# Altium footprint library Real-Time Clocks (RTCs).PcbLib: 185 footprints (part 12 of 12)
Each footprint in its own frame and in the unit in brackets; x right, y up, seen from the top. Pads: shape width x height; smd on the part's side, far side on the other; paste and mask are expansions set on the pad; w line width, h text height; cw(c..) or ccw(c..) is an arc to the next point about the centre after c.
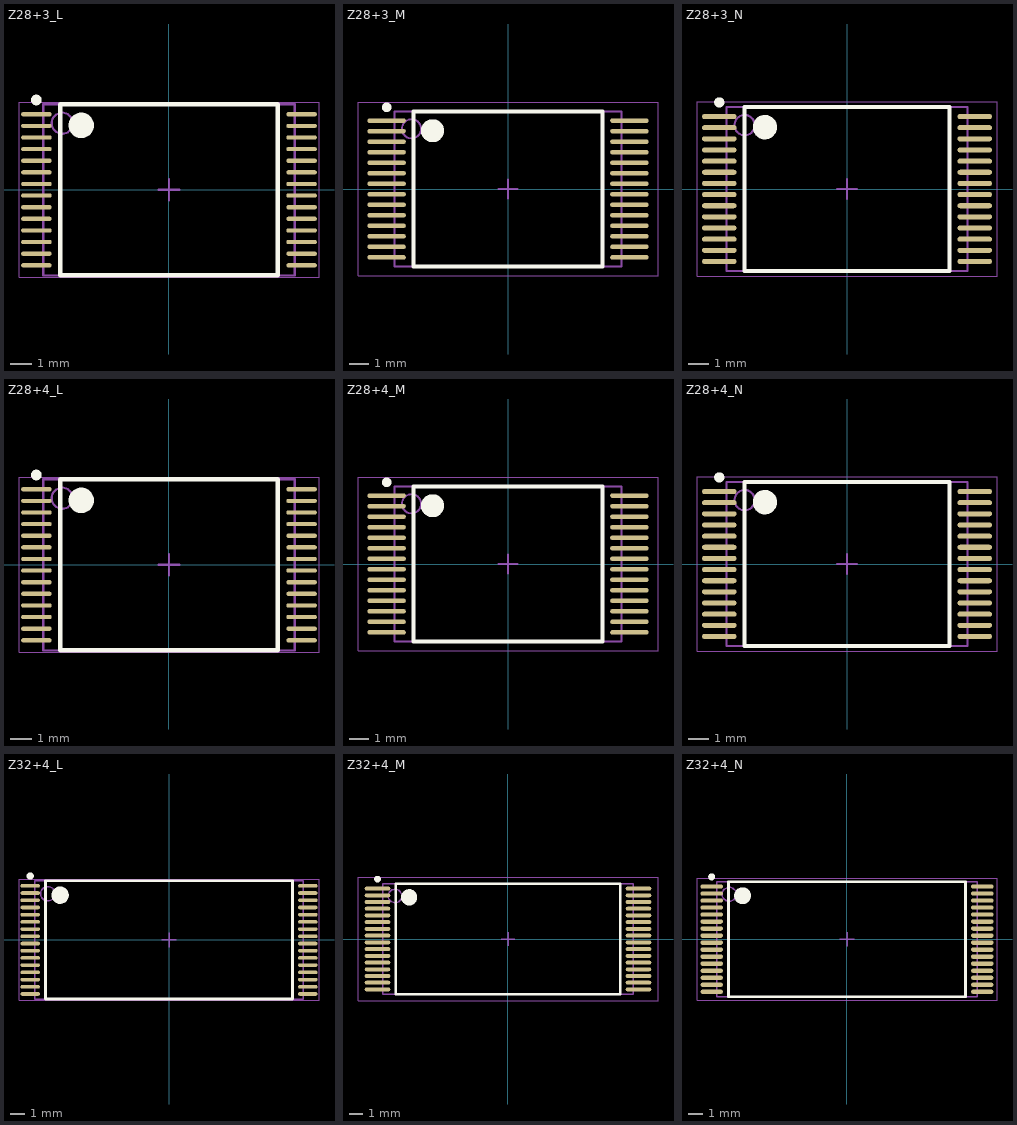
[diagram p11: the footprints below, top view; thin cyan lines are the x and y axes]

## Z28+3_L [mm] "TSSOP, 28-Leads, Body 8x11.8mm, Pitch 0.55mm, IPC High Density"
height 1.2
pads (28):
  oval 1.45x0.2 smd: 1(-6.275,3.575) 2(-6.275,3.025) 3(-6.275,2.475) 4(-6.275,1.925) 5(-6.275,1.375) 6(-6.275,0.825) 7(-6.275,0.275) 8(-6.275,-0.275) 9(-6.275,-0.825) 10(-6.275,-1.375) 11(-6.275,-1.925) 12(-6.275,-2.475) 13(-6.275,-3.025) 14(-6.275,-3.575) 15(6.275,-3.575) 16(6.275,-3.025) 17(6.275,-2.475) 18(6.275,-1.925) 19(6.275,-1.375) 20(6.275,-0.825) 21(6.275,-0.275) 22(6.275,0.275) 23(6.275,0.825) 24(6.275,1.375) 25(6.275,1.925) 26(6.275,2.475) 27(6.275,3.025) 28(6.275,3.575)
Top Overlay:
  circle w0.25: c-6.275,4.25 r0.125
  circle w0.6: c-4.15,3.05 r0.3
  lines w0.2: -5.15,-4.05 -5.15,4.05 5.15,4.05 5.15,-4.05 -5.15,-4.05
Mechanical 13:
  circle w0.1: c-5.05,3.15 r0.5
  lines w0.1: -5.95,-4.05 -5.95,4.05 5.95,4.05 5.95,-4.05 -5.95,-4.05
Mechanical 15:
  lines w0.05: -7.1,-4.15 -7.1,4.15 7.1,4.15 7.1,-4.15 -7.1,-4.15
  lines w0.1: -0.5,0 0.5,0 ; 0,-0.5 0,0.5
3D body: height 1.2, standoff 0.05, extent -5.95,-4.05 5.95,4.05

## Z28+3_M [mm] "TSSOP, 28-Leads, Body 8x11.8mm, Pitch 0.55mm, IPC Low Density"
height 1.2
pads (28):
  oval 2x0.25 smd: 1(-6.35,3.575) 2(-6.35,3.025) 3(-6.35,2.475) 4(-6.35,1.925) 5(-6.35,1.375) 6(-6.35,0.825) 7(-6.35,0.275) 8(-6.35,-0.275) 9(-6.35,-0.825) 10(-6.35,-1.375) 11(-6.35,-1.925) 12(-6.35,-2.475) 13(-6.35,-3.025) 14(-6.35,-3.575) 15(6.35,-3.575) 16(6.35,-3.025) 17(6.35,-2.475) 18(6.35,-1.925) 19(6.35,-1.375) 20(6.35,-0.825) 21(6.35,-0.275) 22(6.35,0.275) 23(6.35,0.825) 24(6.35,1.375) 25(6.35,1.925) 26(6.35,2.475) 27(6.35,3.025) 28(6.35,3.575)
Top Overlay:
  circle w0.25: c-6.35,4.275 r0.125
  circle w0.6: c-3.95,3.05 r0.3
  lines w0.2: -4.95,-4.05 -4.95,4.05 4.95,4.05 4.95,-4.05 -4.95,-4.05
Mechanical 13:
  circle w0.1: c-5.05,3.15 r0.5
  lines w0.1: -5.95,-4.05 -5.95,4.05 5.95,4.05 5.95,-4.05 -5.95,-4.05
Mechanical 15:
  lines w0.05: -7.85,-4.55 -7.85,4.55 7.85,4.55 7.85,-4.55 -7.85,-4.55
  lines w0.1: -0.5,0 0.5,0 ; 0,-0.5 0,0.5
3D body: height 1.2, standoff 0.05, extent -5.95,-4.05 5.95,4.05

## Z28+3_N [mm] "TSSOP, 28-Leads, Body 8x11.8mm, Pitch 0.55mm, IPC Medium Density"
height 1.2
pads (28):
  oval 1.7x0.25 smd: 1(-6.3,3.575) 2(-6.3,3.025) 3(-6.3,2.475) 4(-6.3,1.925) 5(-6.3,1.375) 6(-6.3,0.825) 7(-6.3,0.275) 8(-6.3,-0.275) 9(-6.3,-0.825) 10(-6.3,-1.375) 11(-6.3,-1.925) 12(-6.3,-2.475) 13(-6.3,-3.025) 14(-6.3,-3.575) 15(6.3,-3.575) 16(6.3,-3.025) 17(6.3,-2.475) 18(6.3,-1.925) 19(6.3,-1.375) 20(6.3,-0.825) 21(6.3,-0.275) 22(6.3,0.275) 23(6.3,0.825) 24(6.3,1.375) 25(6.3,1.925) 26(6.3,2.475) 27(6.3,3.025) 28(6.3,3.575)
Top Overlay:
  circle w0.25: c-6.3,4.275 r0.125
  circle w0.6: c-4.05,3.05 r0.3
  lines w0.2: -5.05,-4.05 -5.05,4.05 5.05,4.05 5.05,-4.05 -5.05,-4.05
Mechanical 13:
  circle w0.1: c-5.05,3.15 r0.5
  lines w0.1: -5.95,-4.05 -5.95,4.05 5.95,4.05 5.95,-4.05 -5.95,-4.05
Mechanical 15:
  lines w0.05: -7.4,-4.3 -7.4,4.3 7.4,4.3 7.4,-4.3 -7.4,-4.3
  lines w0.1: -0.5,0 0.5,0 ; 0,-0.5 0,0.5
3D body: height 1.2, standoff 0.05, extent -5.95,-4.05 5.95,4.05

## Z28+4_L [mm] "TSSOP, 28-Leads, Body 8x11.8mm, Pitch 0.55mm, IPC High Density"
height 1.2
pads (28):
  oval 1.45x0.2 smd: 1(-6.275,3.575) 2(-6.275,3.025) 3(-6.275,2.475) 4(-6.275,1.925) 5(-6.275,1.375) 6(-6.275,0.825) 7(-6.275,0.275) 8(-6.275,-0.275) 9(-6.275,-0.825) 10(-6.275,-1.375) 11(-6.275,-1.925) 12(-6.275,-2.475) 13(-6.275,-3.025) 14(-6.275,-3.575) 15(6.275,-3.575) 16(6.275,-3.025) 17(6.275,-2.475) 18(6.275,-1.925) 19(6.275,-1.375) 20(6.275,-0.825) 21(6.275,-0.275) 22(6.275,0.275) 23(6.275,0.825) 24(6.275,1.375) 25(6.275,1.925) 26(6.275,2.475) 27(6.275,3.025) 28(6.275,3.575)
Top Overlay:
  circle w0.25: c-6.275,4.25 r0.125
  circle w0.6: c-4.15,3.05 r0.3
  lines w0.2: -5.15,-4.05 -5.15,4.05 5.15,4.05 5.15,-4.05 -5.15,-4.05
Mechanical 13:
  circle w0.1: c-5.05,3.15 r0.5
  lines w0.1: -5.95,-4.05 -5.95,4.05 5.95,4.05 5.95,-4.05 -5.95,-4.05
Mechanical 15:
  lines w0.05: -7.1,-4.15 -7.1,4.15 7.1,4.15 7.1,-4.15 -7.1,-4.15
  lines w0.1: -0.5,0 0.5,0 ; 0,-0.5 0,0.5
3D body: height 1.2, standoff 0.05, extent -5.95,-4.05 5.95,4.05

## Z28+4_M [mm] "TSSOP, 28-Leads, Body 8x11.8mm, Pitch 0.55mm, IPC Low Density"
height 1.2
pads (28):
  oval 2x0.25 smd: 1(-6.35,3.575) 2(-6.35,3.025) 3(-6.35,2.475) 4(-6.35,1.925) 5(-6.35,1.375) 6(-6.35,0.825) 7(-6.35,0.275) 8(-6.35,-0.275) 9(-6.35,-0.825) 10(-6.35,-1.375) 11(-6.35,-1.925) 12(-6.35,-2.475) 13(-6.35,-3.025) 14(-6.35,-3.575) 15(6.35,-3.575) 16(6.35,-3.025) 17(6.35,-2.475) 18(6.35,-1.925) 19(6.35,-1.375) 20(6.35,-0.825) 21(6.35,-0.275) 22(6.35,0.275) 23(6.35,0.825) 24(6.35,1.375) 25(6.35,1.925) 26(6.35,2.475) 27(6.35,3.025) 28(6.35,3.575)
Top Overlay:
  circle w0.25: c-6.35,4.275 r0.125
  circle w0.6: c-3.95,3.05 r0.3
  lines w0.2: -4.95,-4.05 -4.95,4.05 4.95,4.05 4.95,-4.05 -4.95,-4.05
Mechanical 13:
  circle w0.1: c-5.05,3.15 r0.5
  lines w0.1: -5.95,-4.05 -5.95,4.05 5.95,4.05 5.95,-4.05 -5.95,-4.05
Mechanical 15:
  lines w0.05: -7.85,-4.55 -7.85,4.55 7.85,4.55 7.85,-4.55 -7.85,-4.55
  lines w0.1: -0.5,0 0.5,0 ; 0,-0.5 0,0.5
3D body: height 1.2, standoff 0.05, extent -5.95,-4.05 5.95,4.05

## Z28+4_N [mm] "TSSOP, 28-Leads, Body 8x11.8mm, Pitch 0.55mm, IPC Medium Density"
height 1.2
pads (28):
  oval 1.7x0.25 smd: 1(-6.3,3.575) 2(-6.3,3.025) 3(-6.3,2.475) 4(-6.3,1.925) 5(-6.3,1.375) 6(-6.3,0.825) 7(-6.3,0.275) 8(-6.3,-0.275) 9(-6.3,-0.825) 10(-6.3,-1.375) 11(-6.3,-1.925) 12(-6.3,-2.475) 13(-6.3,-3.025) 14(-6.3,-3.575) 15(6.3,-3.575) 16(6.3,-3.025) 17(6.3,-2.475) 18(6.3,-1.925) 19(6.3,-1.375) 20(6.3,-0.825) 21(6.3,-0.275) 22(6.3,0.275) 23(6.3,0.825) 24(6.3,1.375) 25(6.3,1.925) 26(6.3,2.475) 27(6.3,3.025) 28(6.3,3.575)
Top Overlay:
  circle w0.25: c-6.3,4.275 r0.125
  circle w0.6: c-4.05,3.05 r0.3
  lines w0.2: -5.05,-4.05 -5.05,4.05 5.05,4.05 5.05,-4.05 -5.05,-4.05
Mechanical 13:
  circle w0.1: c-5.05,3.15 r0.5
  lines w0.1: -5.95,-4.05 -5.95,4.05 5.95,4.05 5.95,-4.05 -5.95,-4.05
Mechanical 15:
  lines w0.05: -7.4,-4.3 -7.4,4.3 7.4,4.3 7.4,-4.3 -7.4,-4.3
  lines w0.1: -0.5,0 0.5,0 ; 0,-0.5 0,0.5
3D body: height 1.2, standoff 0.05, extent -5.95,-4.05 5.95,4.05

## Z32+4_L [mm] "TSSOP, 10-Leads, Body 8x18.4mm, Pitch 0.5mm, IPC High Density"
height 1.24
pads (32):
  oval 1.35x0.25 smd: 1(-9.625,3.75) 2(-9.625,3.25) 3(-9.625,2.75) 4(-9.625,2.25) 5(-9.625,1.75) 6(-9.625,1.25) 7(-9.625,0.75) 8(-9.625,0.25) 9(-9.625,-0.25) 10(-9.625,-0.75) 11(-9.625,-1.25) 12(-9.625,-1.75) 13(-9.625,-2.25) 14(-9.625,-2.75) 15(-9.625,-3.25) 16(-9.625,-3.75) 17(9.625,-3.75) 18(9.625,-3.25) 19(9.625,-2.75) 20(9.625,-2.25) 21(9.625,-1.75) 22(9.625,-1.25) 23(9.625,-0.75) 24(9.625,-0.25) 25(9.625,0.25) 26(9.625,0.75) 27(9.625,1.25) 28(9.625,1.75) 29(9.625,2.25) 30(9.625,2.75) 31(9.625,3.25) 32(9.625,3.75)
Top Overlay:
  circle w0.25: c-9.625,4.425 r0.125
  circle w0.6: c-7.55,3.1 r0.3
  lines w0.2: -8.55,-4.1 -8.55,4.1 8.55,4.1 8.55,-4.1 -8.55,-4.1
Mechanical 13:
  circle w0.1: c-8.4,3.2 r0.5
  lines w0.1: -9.3,-4.1 -9.3,4.1 9.3,4.1 9.3,-4.1 -9.3,-4.1
Mechanical 15:
  lines w0.05: -10.4,-4.2 -10.4,4.2 10.4,4.2 10.4,-4.2 -10.4,-4.2
  lines w0.1: -0.5,0 0.5,0 ; 0,-0.5 0,0.5
3D body: height 1.24, standoff 0.05, extent -9.299,-4.099 9.299,4.099

## Z32+4_M [mm] "TSSOP, 10-Leads, Body 8x18.4mm, Pitch 0.5mm, IPC Low Density"
height 1.24
pads (32):
  oval 1.9x0.3 smd: 1(-9.7,3.75) 2(-9.7,3.25) 3(-9.7,2.75) 4(-9.7,2.25) 5(-9.7,1.75) 6(-9.7,1.25) 7(-9.7,0.75) 8(-9.7,0.25) 9(-9.7,-0.25) 10(-9.7,-0.75) 11(-9.7,-1.25) 12(-9.7,-1.75) 13(-9.7,-2.25) 14(-9.7,-2.75) 15(-9.7,-3.25) 16(-9.7,-3.75) 17(9.7,-3.75) 18(9.7,-3.25) 19(9.7,-2.75) 20(9.7,-2.25) 21(9.7,-1.75) 22(9.7,-1.25) 23(9.7,-0.75) 24(9.7,-0.25) 25(9.7,0.25) 26(9.7,0.75) 27(9.7,1.25) 28(9.7,1.75) 29(9.7,2.25) 30(9.7,2.75) 31(9.7,3.25) 32(9.7,3.75)
Top Overlay:
  circle w0.25: c-9.7,4.45 r0.125
  circle w0.6: c-7.35,3.1 r0.3
  lines w0.2: -8.35,-4.1 -8.35,4.1 8.35,4.1 8.35,-4.1 -8.35,-4.1
Mechanical 13:
  circle w0.1: c-8.4,3.2 r0.5
  lines w0.1: -9.3,-4.1 -9.3,4.1 9.3,4.1 9.3,-4.1 -9.3,-4.1
Mechanical 15:
  lines w0.05: -11.15,-4.6 -11.15,4.6 11.15,4.6 11.15,-4.6 -11.15,-4.6
  lines w0.1: -0.5,0 0.5,0 ; 0,-0.5 0,0.5
3D body: height 1.24, standoff 0.05, extent -9.299,-4.099 9.299,4.099

## Z32+4_N [mm] "TSSOP, 10-Leads, Body 8x18.4mm, Pitch 0.5mm, IPC Medium Density"
height 1.24
pads (32):
  oval 1.6x0.3 smd: 1(-9.65,3.75) 2(-9.65,3.25) 3(-9.65,2.75) 4(-9.65,2.25) 5(-9.65,1.75) 6(-9.65,1.25) 7(-9.65,0.75) 8(-9.65,0.25) 9(-9.65,-0.25) 10(-9.65,-0.75) 11(-9.65,-1.25) 12(-9.65,-1.75) 13(-9.65,-2.25) 14(-9.65,-2.75) 15(-9.65,-3.25) 16(-9.65,-3.75) 17(9.65,-3.75) 18(9.65,-3.25) 19(9.65,-2.75) 20(9.65,-2.25) 21(9.65,-1.75) 22(9.65,-1.25) 23(9.65,-0.75) 24(9.65,-0.25) 25(9.65,0.25) 26(9.65,0.75) 27(9.65,1.25) 28(9.65,1.75) 29(9.65,2.25) 30(9.65,2.75) 31(9.65,3.25) 32(9.65,3.75)
Top Overlay:
  circle w0.6: c-7.45,3.1 r0.3
  circle w0.25: c-9.65,4.45 r0.125
  lines w0.2: -8.45,-4.1 8.45,-4.1 8.45,4.1 -8.45,4.1 -8.45,-4.1
Mechanical 13:
  circle w0.1: c-8.4,3.2 r0.5
  lines w0.1: -9.3,-4.1 9.3,-4.1 9.3,4.1 -9.3,4.1 -9.3,-4.1
Mechanical 15:
  lines w0.05: -10.7,-4.35 10.7,-4.35 10.7,4.35 -10.7,4.35 -10.7,-4.35
  lines w0.1: -0.5,0 0.5,0 ; 0,-0.5 0,0.5
3D body: height 1.24, standoff 0.05, extent -9.299,-4.099 9.299,4.099